# EAGLE library part BQ24075 (library Capstone Library)
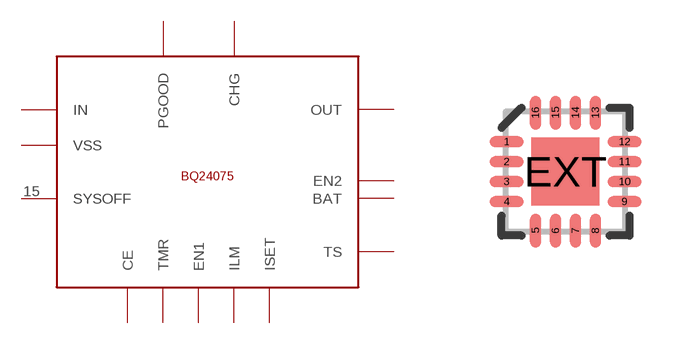
[diagram p2: symbol with the pads of QFN16-3X3MM; footprint QFN16-3X3MM]

Designator prefix -

## BQ24075  [QFN16-3X3MM]
1  TS
2  BAT
3  BAT
4  CE
5  EN2
6  EN1
7  PGOOD
8  VSS
9  CHG
10  OUT  pwr
11  OUT  pwr
12  ILM
13  IN
14  TMR
15  SYSOFF
16  ISET
EXT  VSS

## Footprint QFN16-3X3MM (pad centres in mm)
3mm x 3mm QFN 16 pin
smd 0.85 x 0.28: 1 -1.475,0.75; 2 -1.475,0.25; 3 -1.475,-0.25; 4 -1.475,-0.75; 9 1.475,-0.75; 10 1.475,-0.25; 11 1.475,0.25; 12 1.475,0.75
smd 0.28 x 0.85: 5 -0.75,-1.475; 6 -0.25,-1.475; 7 0.25,-1.475; 8 0.75,-1.475; 13 0.75,1.475; 14 0.25,1.475; 15 -0.25,1.475; 16 -0.75,1.475
smd 1.7 x 1.7: EXT 0,0